# Altium schematic symbol library TDN 5 WISM.Schlib: 1 symbol
Pins are listed as number, name and electrical type; pins without a type are passive.

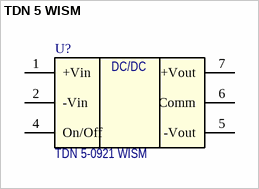
[diagram p0: symbol TDN 5 WISM]

## TDN 5 WISM
designator U?  Наименование: TDN 5-0921 WISM  (hidden comment: TDN 5 WISM)
DC/DC converter; Назначение: DC-DC преобразователь
footprint TDN 5 WISM (DC/DC converter case)
pins: 1 +Vin (oc), 2 -Vin (oc), 4 On/Off (oc), 5 -Vout (oc), 6 Comm (oc), 7 +Vout (oc)
text: DC/DC